# Altium footprint library HallEffect.PcbLib: 2 footprints
Each footprint in its own frame and in the unit in brackets; x right, y up, seen from the top. Pads: shape width x height; smd on the part's side, far side on the other; paste and mask are expansions set on the pad; w line width, h text height; cw(c..) or ccw(c..) is an arc to the next point about the centre after c.
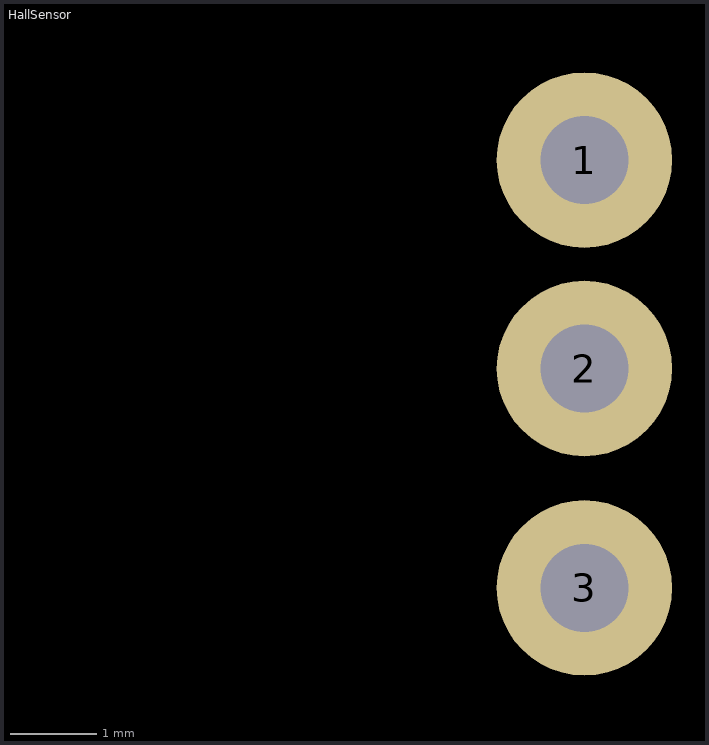
[diagram p0: the footprints below, top view; thin cyan lines are the x and y axes]

## HallSensor [mil]
pads (3):
  round 80 hole 40: 1(-16000,7130) 2(-16000,7035) 3(-16000,6935)
Top Overlay:
  region: -16250,7085
  region: -16235,7080

## PCBComponent_1 [mil]